# Altium schematic symbol library TRANSISTORS.SchLib: 31 symbols
Pins are listed as number, name and electrical type; pins without a type are passive.

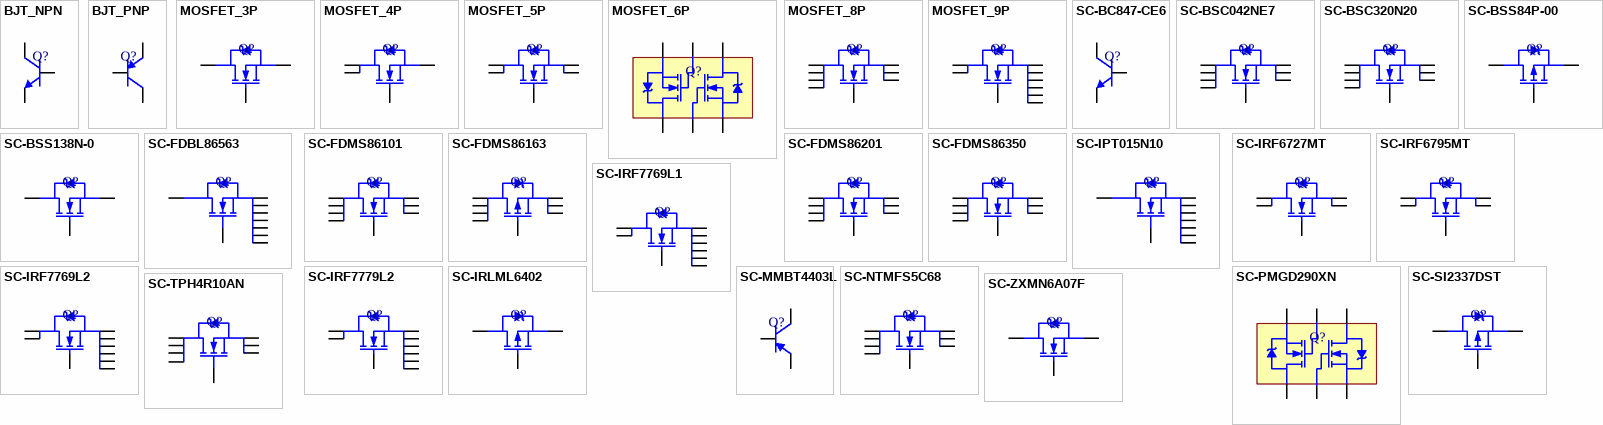
[diagram p0: symbols BJT_NPN to SC-ZXMN6A07F]

## BJT_NPN
designator Q?
Manufacturer Part Number: *; Working Temperature: *; Temperature Coefficient: *; Short Description: *; Power: *; Ratings: *; Type: *; Frequency: *; Alternate Part Number 1: *; Alternate Part Number 2: *; Manufacturer: *; Tolerance: *; Current: *; Revision Date: 04/08/21; Package Reference: *; Voltage: *; Value: *
pins: 1 B, 2 E, 3 C

## BJT_PNP
designator Q?
Manufacturer Part Number: *; Working Temperature: *; Temperature Coefficient: *; Short Description: *; Power: *; Ratings: *; Type: *; Frequency: *; Alternate Part Number 1: *; Alternate Part Number 2: *; Manufacturer: *; Tolerance: *; Current: *; Revision Date: 04/08/21; Package Reference: *; Voltage: *; Value: *
pins: 1 B, 2 E, 3 C

## MOSFET_3P
designator Q?
Manufacturer Part Number: *; Working Temperature: *; Temperature Coefficient: *; Short Description: *; Power: *; Ratings: *; Type: *; Frequency: *; Alternate Part Number 1: *; Alternate Part Number 2: *; Manufacturer: *; Tolerance: *; Current: *; Revision Date: 04/08/21; Package Reference: *; Voltage: *; Value: *
pins: 1 S, 2 G, 3 D

## MOSFET_4P
designator Q?
Manufacturer Part Number: *; Working Temperature: *; Temperature Coefficient: *; Short Description: *; Power: *; Ratings: *; Type: *; Frequency: *; Alternate Part Number 1: *; Alternate Part Number 2: *; Manufacturer: *; Tolerance: *; Current: *; Revision Date: 04/08/21; Package Reference: *; Voltage: *; Value: *
pins: 1 S, 2 D, 3 D, 4 G

## MOSFET_5P
designator Q?
Manufacturer Part Number: *; Working Temperature: *; Temperature Coefficient: *; Short Description: *; Power: *; Ratings: *; Type: *; Frequency: *; Alternate Part Number 1: *; Alternate Part Number 2: *; Manufacturer: *; Tolerance: *; Current: *; Revision Date: 04/08/21; Package Reference: *; Voltage: *; Value: *
pins: 1 S, 2 S, 3 D, 4 D, 5 G

## MOSFET_6P
designator Q?
Manufacturer Part Number: *; Working Temperature: *; Temperature Coefficient: *; Short Description: *; Power: *; Ratings: *; Type: *; Frequency: *; Alternate Part Number 1: *; Alternate Part Number 2: *; Manufacturer: *; Tolerance: *; Current: *; Revision Date: 04/08/21; Package Reference: *; Voltage: *; Value: *
pins: 1 S, 2 G, 3 D, 4 S, 5 G, 6 D

## MOSFET_8P
designator Q?
Manufacturer Part Number: *; Working Temperature: *; Temperature Coefficient: *; Short Description: *; Power: *; Ratings: *; Type: *; Frequency: *; Alternate Part Number 1: *; Alternate Part Number 2: *; Manufacturer: *; Tolerance: *; Current: *; Revision Date: 04/08/21; Package Reference: *; Voltage: *; Value: *
pins: 1 S, 2 S, 3 S, 4 G, 5 D, 6 D, 7 D, 8 D

## MOSFET_9P
designator Q?
Manufacturer Part Number: *; Working Temperature: *; Temperature Coefficient: *; Short Description: *; Power: *; Ratings: *; Type: *; Frequency: *; Alternate Part Number 1: *; Alternate Part Number 2: *; Manufacturer: *; Tolerance: *; Current: *; Revision Date: 04/08/21; Package Reference: *; Voltage: *; Value: *
pins: 1 S, 2 S, 3 S, 4 S, 5 S, 6 S, 7 D, 8 D, 9 G

## SC-BC847-CE6
designator Q?
Bipolar (BJT) Transistor NPN 45 V 100 mA 250MHz 330 mW Surface Mount SOT-23-3; Manufacturer Part Number: BC847CE6327; Alternate Part Number 1: ND; Manufacturer: Infineon Technologies; Working Temperature: 150°C (TJ); Temperature Coefficient: NC; Short Description: TRANS NPN 45V 100MA SOT23-3; Power: 330 mW; Ratings: REACH, ROHS3; Current: 100mA; Voltage: 45V; Value: 420; Mounting: SMT; Type: NPN; Frequency: NC; Alternate Part Number 2: ND; Tolerance: NC; Revision Date: 04/08/21; Package Reference: SOT-23-3
footprint SOT-23-3
pins: 1 B, 2 E, 3 C

## SC-BSC042NE7
designator Q?
N-Channel 75 V 19A (Ta), 100A (Tc) 2.5W (Ta), 125W (Tc) Surface Mount PG-TDSON-8-1; Manufacturer Part Number: BSC042NE7NS3GATMA1; Alternate Part Number 1: ND; Manufacturer: Infineon Technologies; Working Temperature: -55°C ~ 150°C (TJ); Temperature Coefficient: NC; Short Description: MOSFET N-CH 75V 19A/100A TDSON; Ratings: REACH, ROHS3; Voltage: 75V; Value: 4.2m; Mounting: SMT; Power: 2.5W (Ta), 125W (Tc); Type: N-Channel; Frequency: NC; Alternate Part Number 2: ND; Tolerance: NC; Current: 19A (Ta), 100A (Tc); Revision Date: 04/08/21; Package Reference: PowerTDFN-8
footprint PQFN-8
pins: 1 S, 2 S, 3 S, 4 G, 5 D, 6 D, 7 D, 8 D

## SC-BSC320N20
designator Q?
N-Channel 200 V 36A (Tc) 125W (Tc) Surface Mount PG-TDSON-8-1; Manufacturer Part Number: BSC320N20NS3 G; Alternate Part Number 1: ND; Manufacturer: Infineon Technologies; Working Temperature: -55°C ~ 150°C (TJ); Temperature Coefficient: NC; Short Description: MOSFET N-CH 200V 36A TDSON-8; Ratings: REACH, ROHS3; Voltage: 200V; Value: 32m; Mounting: SMT; Power: 125W (Tc); Type: N-Channel; Frequency: NC; Alternate Part Number 2: ND; Tolerance: NC; Current: 36A (Tc); Revision Date: 04/08/21; Package Reference: PowerTDFN-8
footprint PQFN-8
pins: 1 S, 2 S, 3 S, 4 G, 5 D, 6 D, 7 D, 8 D

## SC-BSS84P-00
designator Q?
P-Channel 50 V 130mA (Ta) 250mW (Tc) Surface Mount TO-236AB; Manufacturer Part Number: BSS84PH6433XTMA1; Alternate Part Number 1: BSS84,215; Alternate Part Number 2: ND; Manufacturer: Nexperia USA Inc.; Working Temperature: -65°C ~ 150°C (TJ); Temperature Coefficient: NC; Short Description: MOSFET P-CH 50V 130MA TO236AB; Ratings: REACH, ROHS3; Voltage: 50V; Value: 10; Mounting: SMT; Power: 250mW (Tc); Type: P-Channel; Frequency: NC; Tolerance: NC; Current: 130mA (Ta); Revision Date: 04/08/21; Package Reference: SOT-23-3
footprint SOT-23-3
pins: 1 G, 2 S, 3 D

## SC-BSS138N-0
designator Q?
N-Channel 60 V 230mA (Ta) 360mW (Ta) Surface Mount SOT-23-3; Manufacturer Part Number: BSS138N H6327; Alternate Part Number 1: ND; Manufacturer: Infineon Technologies; Working Temperature: -55°C ~ 150°C (TJ); Temperature Coefficient: NC; Short Description: MOSFET N-CH 60V 230MA SOT23-3; Ratings: REACH, ROHS3; Voltage: 60V; Value: 3.5; Mounting: SMT; Power: 360mW (Ta); Type: N-Channel; Frequency: NC; Alternate Part Number 2: ND; Tolerance: NC; Current: 230mA (Ta); Revision Date: 04/08/21; Package Reference: SOT-23-3
footprint SOT-23-3
pins: 1 G, 2 S, 3 D

## SC-FDBL86563
designator Q?
N-Channel 60 V 240A (Tc) 357W (Tj) Surface Mount PG-HSOF-8-1; Manufacturer Part Number: FDBL86563-F085; Alternate Part Number 1: ND; Manufacturer: onsemi; Working Temperature: -55°C ~ 175°C (TJ); Temperature Coefficient: NC; Short Description: MOSFET N-CH 60V 240A 8HPSOF; Ratings: REACH, ROHS3; Voltage: 60V; Value: 1,5mOhm; Mounting: SMT; Power: 357W (Tj); Type: N-Channel; Frequency: NC; Alternate Part Number 2: ND; Tolerance: NC; Current: 240A (Tc); Revision Date: 04/04/23; Package Reference: PG-HSOF-8
footprint PG-HSOF-8
pins: 1 G, 2 S, 3 S, 4 S, 5 S, 6 S, 7 S, 8 S, TAP D

## SC-FDMS86101
designator Q?
N-Channel 100 V 12.4A (Ta), 60A (Tc) 2.5W (Ta), 104W (Tc) Surface Mount 8-PQFN (5x6); Manufacturer Part Number: FDMS86101; Alternate Part Number 1: ND; Manufacturer: ON Semiconductor; Working Temperature: -55°C ~ 150°C (TJ); Temperature Coefficient: NC; Short Description: MOSFET N-CH 100V 12.4A/60A 8PQFN; Ratings: REACH, ROHS3; Voltage: 100V; Value: 8m; Mounting: SMT; Power: 2.5W (Ta), 104W (Tc); Type: N-Channel; Frequency: NC; Alternate Part Number 2: ND; Tolerance: NC; Current: 12.4A (Ta), 60A (Tc); Revision Date: 04/08/21; Package Reference: PowerTDFN-8
footprint PQFN-8
pins: 1 S, 2 S, 3 S, 4 G, 5 D, 6 D, 7 D, 8 D

## SC-FDMS86163
designator Q?
P-Channel 100 V 7.9A (Ta), 50A (Tc) 2.5W (Ta), 104W (Tc) Surface Mount 8-PQFN (5x6); Manufacturer Part Number: FDMS86163P; Alternate Part Number 1: ND; Manufacturer: ON Semiconductor; Working Temperature: -55°C ~ 150°C (TJ); Temperature Coefficient: NC; Short Description: MOSFET P-CH 100V 7.9A/50A 8PQFN; Ratings: REACH, ROHS3; Voltage: 100V; Value: 8m; Mounting: SMT; Power: 2.5W (Ta), 104W (Tc); Type: P-Channel; Frequency: NC; Alternate Part Number 2: ND; Tolerance: NC; Current: 7.9A (Ta), 50A (Tc); Revision Date: 20/09/21; Package Reference: PowerTDFN-8
footprint PQFN-8
pins: 1 S, 2 S, 3 S, 4 G, 5 D, 6 D, 7 D, 8 D

## SC-FDMS86201
designator Q?  (value not drawn)
N-Channel 120 V 11.6A (Ta), 49A (Tc) 2.5W (Ta), 104W (Tc) Surface Mount 8-PQFN (5x6); Alternate Part Number 1: ND; Manufacturer: ON Semiconductor; Working Temperature: -55°C ~ 150°C (TJ); Temperature Coefficient: NC; Short Description: MOSFET N-CH 120V 11.6A/49A 8PQFN; Ratings: REACH, ROHS3; Current: 11.6A (Ta), 60A (Tc); Voltage: 120V; Value: 8m; Manufacturer Part Number: FDMS86201; Mounting: SMT; Power: 2.5W (Ta), 104W (Tc); Type: N-Channel; Frequency: NC; Alternate Part Number 2: ND; Tolerance: NC; Revision Date: 04/08/21; Package Reference: PowerTDFN-8
footprint PQFN-8
pins: 1 S, 2 S, 3 S, 4 G, 5 D, 6 D, 7 D, 8 D

## SC-FDMS86350
designator Q?
N-Channel 80 V 25A (Ta), 198A (Tc) 3.3W (Ta), 187W (Tc) Surface Mount 8-PQFN (5x6); Manufacturer Part Number: FDMS86350ET80; Alternate Part Number 1: ND; Manufacturer: ON Semiconductor; Working Temperature: -55°C ~ 175°C (TJ); Temperature Coefficient: NC; Short Description: MOSFET N-CH 80V 25A/198A POWER56; Ratings: REACH, ROHS3; Voltage: 80V; Value: 2.4m; Mounting: SMT; Power: 3.3W (Ta), 187W (Tc); Type: N-Channel; Frequency: NC; Alternate Part Number 2: ND; Tolerance: NC; Current: 25A (Ta), 198A (Tc); Revision Date: 04/08/21; Package Reference: PowerTDFN-8
footprint PQFN-8
pins: 1 S, 2 S, 3 S, 4 G, 5 D, 6 D, 7 D, 8 D

## SC-IPT015N10
designator Q?
N-Channel 100 V 300A (Tc) 375W (Tc) Surface Mount PG-HSOF-8-1; Manufacturer Part Number: IPT015N10N5ATMA1; Alternate Part Number 1: ND; Manufacturer: Infineon Technologies; Working Temperature: -55°C ~ 175°C (TJ); Temperature Coefficient: NC; Short Description: MOSFET N-CH 100V 300A 8HSOF; Ratings: REACH, ROHS3; Voltage: 100V; Value: 1,5mOhm; Mounting: SMT; Power: 375W (Tc); Type: N-Channel; Frequency: NC; Alternate Part Number 2: ND; Tolerance: NC; Current: 300A (Tc); Revision Date: 03/04/23; Package Reference: PG-HSOF-8
footprint PG-HSOF-8
pins: 1 G, 2 S, 3 S, 4 S, 5 S, 6 S, 7 S, 8 S, TAP D

## SC-IRF6727MT
designator Q?
N-Channel 30 V 32A (Ta), 180A (Tc) 2.8W (Ta), 89W (Tc) Surface Mount DIRECTFET™ MX; Manufacturer Part Number: IRF6727MTRPBF; Alternate Part Number 1: ND; Manufacturer: Infineon Technologies; Working Temperature: -40°C ~ 150°C (TJ); Temperature Coefficient: NC; Short Description: MOSFET N-CH 30V 32A DIRECTFET; Ratings: REACH, ROHS3; Voltage: 30V; Value: 1.7m; Mounting: SMT; Power: 2.8W (Ta), 89W (Tc); Type: N-Channel; Frequency: NC; Alternate Part Number 2: ND; Tolerance: NC; Current: 32A (Ta), 180A (Tc); Revision Date: 04/08/21; Package Reference: DIRECTFET
footprint DIRECTFET-MX
pins: 1 G, 2 S, 2 S, 3 D, 3 D

## SC-IRF6795MT
designator Q?
N-Channel 25 V 32A (Ta), 160A (Tc) 2.8W (Ta), 75W (Tc) Surface Mount DIRECTFET™ MX; Manufacturer Part Number: IRF6795MTRPBF; Alternate Part Number 1: ND; Manufacturer: Infineon Technologies; Working Temperature: -40°C ~ 150°C (TJ); Temperature Coefficient: NC; Short Description: MOSFET N-CH 25V 32A DIRECTFET; Ratings: REACH, ROHS3; Voltage: 25V; Value: 1.8m; Mounting: SMT; Power: 2.8W (Ta), 75W (Tc); Type: N-Channel; Frequency: NC; Alternate Part Number 2: ND; Tolerance: NC; Current: 32A (Ta), 160A (Tc); Revision Date: 04/08/21; Package Reference: DIRECTFET
footprint DIRECTFET-MX
pins: 1 G, 2 S, 2 S, 3 D, 3 D

## SC-IRF7769L1
designator Q?
N-Channel 25 V 22A (Ta), 95A (Tc) 2.2W (Ta), 42W (Tc) Surface Mount DIRECTFET™ SQ; Manufacturer Part Number: IRF7769L1TRPBF; Alternate Part Number 1: ND; Manufacturer: Infineon Technologies; Working Temperature: -40°C ~ 150°C (TJ); Temperature Coefficient: NC; Short Description: MOSFET N-CH 25V 22A DIRECTFET; Ratings: REACH; Voltage: 25V; Value: 3m; Mounting: SMT; Power: 2.2W (Ta), 42W (Tc); Type: N-Channel; Frequency: NC; Alternate Part Number 2: ND; Tolerance: NC; Current: 22A (Ta), 95A (Tc); Revision Date: 04/08/21; Package Reference: DIRECTFET
footprint DIRECTFET-L8
pins: 1 G, 2 S, 2 S, 2 S, 2 S, 2 S, 2 S, 3 D, 3 D

## SC-IRF7769L2
designator Q?
N-Channel 100 V 375A (Tc) 3.3W (Ta), 125W (Tc) Surface Mount DirectFET™ Isometric L8; Manufacturer Part Number: IRF7769L2TR1PBF; Alternate Part Number 1: ND; Manufacturer: Infineon Technologies; Working Temperature: -55°C ~ 175°C (TJ); Temperature Coefficient: NC; Short Description: MOSFET N-CH 100V 375A DIRECTFET; Ratings: REACH; Voltage: 100V; Value: 3.5m; Mounting: SMT; Power: 3.3W (Ta), 125W (Tc); Type: N-Channel; Frequency: NC; Alternate Part Number 2: ND; Tolerance: NC; Current: 375A (Tc); Revision Date: 04/08/21; Package Reference: DIRECTFET
footprint DIRECTFET-L8
pins: 1 G, 2 S, 2 S, 2 S, 2 S, 2 S, 2 S, 3 D, 3 D

## SC-IRF7779L2
designator Q?
N-Channel 150 V 67A (Tc) 3.3W (Ta), 125W (Tc) Surface Mount DirectFET™ Isometric L8; Manufacturer Part Number: IRF7779L2TRPBF; Alternate Part Number 1: ND; Manufacturer: Infineon Technologies; Working Temperature: -55°C ~ 175°C (TJ); Temperature Coefficient: NC; Short Description: MOSFET N-CH 150V 375A DIRECTFET; Ratings: REACH; Voltage: 150V; Value: 3.5m11mOhm @ 40A, 10V; Mounting: SMT; Power: 3.3W (Ta), 125W (Tc); Type: N-Channel; Frequency: NC; Alternate Part Number 2: ND; Tolerance: NC; Current: 67A (Tc); Revision Date: 04/08/22; Package Reference: DIRECTFET
footprint DIRECTFET-L8
pins: 1 G, 2 S, 2 S, 2 S, 2 S, 2 S, 2 S, 3 D, 3 D

## SC-IRLML6402
designator Q?
P-Channel 20 V 3.7A (Ta) 1.3W (Ta) Surface Mount Micro3™/SOT-23; Manufacturer Part Number: IRLML6402TRPBF; Alternate Part Number 1: ND; Manufacturer: Infineon Technologies; Working Temperature: -55°C ~ 150°C (TJ); Temperature Coefficient: NC; Short Description: MOSFET P-CH 20V 3.7A SOT23; Ratings: REACH, ROHS3; Voltage: 20V; Value: 65m; Mounting: SMT; Power: 1.3W (Ta); Type: P-Channel; Frequency: NC; Alternate Part Number 2: ND; Tolerance: NC; Current: 3.7A (Ta); Revision Date: 04/08/21; Package Reference: SOT-23-3
footprint SOT-23-3
pins: 1 G, 2 S, 3 D

## SC-MMBT4403L
designator Q?
Bipolar (BJT) Transistor PNP 40 V 600 mA 200MHz 300 mW Surface Mount SOT-23-3 (TO-236); Manufacturer Part Number: MMBT4403LT1G; Alternate Part Number 1: ND; Manufacturer: ON Semiconductor; Working Temperature: -55°C ~ 150°C (TJ); Temperature Coefficient: NC; Short Description: TRANS PNP 40V 600MA SOT23-3; Power: 300mW; Ratings: REACH, ROHS3; Current: 600mA; Voltage: 40V; Value: 100; Mounting: SMT; Type: PNP; Frequency: NC; Alternate Part Number 2: ND; Tolerance: NC; Revision Date: 04/08/21; Package Reference: SOT-23-3
footprint SOT-23-3
pins: 1 B, 2 E, 3 C

## SC-NTMFS5C68
designator Q?
N-Channel 25A (Tc) 28W (Tc) Surface Mount 5-DFN (5x6) (8-SOFL); Manufacturer Part Number: NTMFS5C682NLT1G; Alternate Part Number 1: ND; Manufacturer: ON Semiconductor; Working Temperature: -55°C ~ 175°C (TJ); Temperature Coefficient: NC; Short Description: MOSFET N-CH 60V 25A 5DFN; Ratings: REACH, ROHS3; Voltage: 60V; Value: NC; Mounting: SMT; Power: 28W (Tc); Type: N-Channel; Frequency: NC; Alternate Part Number 2: ND; Tolerance: NC; Current: 25A (Tc); Revision Date: 20/09/21; Package Reference: PowerTDFN-8
footprint PQFN-8
pins: 1 S, 2 S, 3 S, 4 G, 5 D, 6 D, 7 D, 8 D

## SC-PMGD290XN
designator Q?
Mosfet Array 2 N-Channel (Dual) 20V 860mA 410mW Surface Mount 6-TSSOP; Manufacturer Part Number: PMGD290XN T/R; Alternate Part Number 1: ND; Manufacturer: Nexperia USA Inc.; Working Temperature: -55°C ~ 150°C (TJ); Temperature Coefficient: NC; Short Description: MOSFET 2N-CH 20V 0.86A 6TSSOP; Ratings: REACH, ROHS3; Value: 350m; Mounting: SMT; Power: 410mW; Type: N-Channel (Dual); Frequency: NC; Alternate Part Number 2: ND; Tolerance: NC; Current: 860mA; Revision Date: 04/08/21; Package Reference: TSSOP-6; Voltage: 20V
footprint SOT-363-6
pins: 1 S, 2 G, 3 D, 4 S, 5 G, 6 D

## SC-SI2337DST
designator Q?, comment SI2337DS-T1-E3  (value not drawn)
P-Channel 80 V 2.2A (Tc) 760mW (Ta), 2.5W (Tc) Surface Mount SOT-23-3 (TO-236); Manufacturer Part Number: IRLML6402TRPBF; Alternate Part Number 1: ND; Manufacturer: Infineon Technologies; Working Temperature: -55°C ~ 150°C (TJ); Temperature Coefficient: NC; Short Description: MOSFET P-CH 20V 3.7A SOT23; Power: 1.3W (Ta); Ratings: REACH, ROHS3; Current: 3.7A (Ta); Voltage: 20V; Value: 65m; Mounting: SMT; Type: P-Channel; Frequency: NC; Alternate Part Number 2: ND; Tolerance: NC; Revision Date: 04/08/21; Package Reference: SOT-23-3
footprint SOT-23-3
pins: 1 G, 2 S, 3 D

## SC-TPH4R10AN
designator Q?
N-Channel 100 V 70A (Tc) 67W (Tc) Surface Mount 2-5Q1S; Manufacturer Part Number: TPH4R10ANL; Alternate Part Number 1: ND; Manufacturer: TOSHIBA; Working Temperature: -55°C ~ 150°C (TJ); Temperature Coefficient: NC; Short Description: MOSFET N-CH 100V 300A 8HSOF; Ratings: REACH, ROHS3; Voltage: 100V; Value: 3,3mOhm; Mounting: SMT; Power: 67W (Tc); Type: N-Channel; Alternate Part Number 2: ND; Tolerance: NC; Current: 70A (Tc); Revision Date: 03/04/23; Package Reference: 2-5Q1S (SOP Advance); ComponentLink1Description: Datasheet; ComponentLink1URL: https://toshiba.semicon-storage.com/info/TPH4R10ANL_datasheet_en_20191018.pdf?did=55592&prodName=TPH4R10ANL
footprint PQFN-8
pins: 1 S, 2 S, 3 S, 4 G, 5 D, 6 D, 7 D, 8 D

## SC-ZXMN6A07F
designator Q?
N-Channel 60 V 1.2A (Ta) 625mW (Ta) Surface Mount SOT-23-3; Manufacturer Part Number: ZXMN6A07FTA; Alternate Part Number 1: ND; Manufacturer: Diodes Incorporated; Working Temperature: -55°C ~ 150°C (TJ); Temperature Coefficient: NC; Short Description: MOSFET N-CH 60V 1.2A SOT23-3; Ratings: REACH, ROHS3; Voltage: 60V; Value: 250m; Mounting: SMT; Power: 625mW (Ta); Type: N-Channel; Frequency: NC; Alternate Part Number 2: ND; Tolerance: NC; Current: 1.2A (Ta); Revision Date: 04/08/21; Package Reference: SOT-23-3
footprint SOT-23-3
pins: 1 G, 2 S, 3 D